# Altium footprint library 632722200211.PcbLib: 1 footprints
Each footprint in its own frame and in the unit in brackets; x right, y up, seen from the top. Pads: shape width x height; smd on the part's side, far side on the other; paste and mask are expansions set on the pad; w line width, h text height; cw(c..) or ccw(c..) is an arc to the next point about the centre after c.
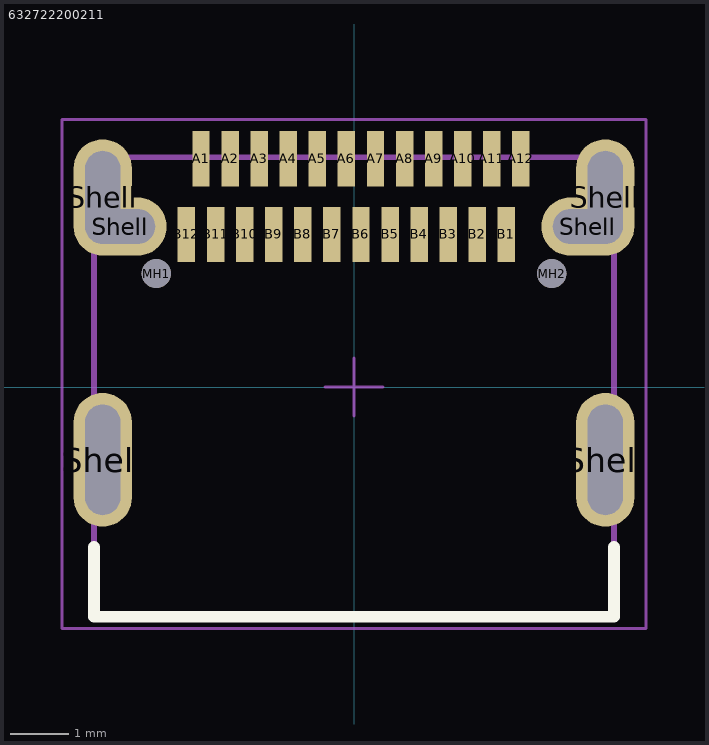
[diagram p0: the footprint, top view; thin cyan lines are the x and y axes]

## 632722200211 [mm] "USB 3.1 Type C"
height 3.16
pads (32):
  rect 0.3x0.95 smd: A1(-2.63,3.925) A2(-2.13,3.925) A3(-1.63,3.925) A4(-1.13,3.925) A5(-0.63,3.925) A6(-0.13,3.925) A7(0.37,3.925) A8(0.87,3.925) A9(1.37,3.925) A10(1.87,3.925) A11(2.37,3.925) A12(2.87,3.925) B1(2.62,2.625) B2(2.12,2.625) B3(1.62,2.625) B4(1.12,2.625) B5(0.62,2.625) B6(0.12,2.625) B7(-0.38,2.625) B8(-0.88,2.625) B9(-1.38,2.625) B10(-1.88,2.625) B11(-2.38,2.625) B12(-2.88,2.625)
  round 0.5 hole 0.5 unplated: MH1(-3.4,1.95) MH2(3.4,1.95)
  oval 1x2.3 hole 0.6 slot 1.9 at 90 deg: Shell(-4.32,-1.25) Shell(4.32,-1.25)
  oval 1x2 hole 0.6 slot 1.6 at 90 deg: Shell(-4.32,3.26) Shell(4.32,3.26)
  oval 1.6x1 hole 0.6 slot 1.2 at 0 deg: Shell(-4.02,2.76) Shell(4.02,2.76)
Top Overlay:
  lines w0.2: -4.47,-2.75 -4.47,-3.95 4.47,-3.95 4.47,-2.75
Top Designator:
  text ".Designator" at -7.498,-0.5 h1.5
Top Component Outline:
  lines w0.1: -4.47,-3.95 4.47,-3.95 4.47,3.95 -4.47,3.95 -4.47,-3.95
Top Courtyard:
  lines w0.05: -5.02,-4.15 5.02,-4.15 5.02,4.6 -5.02,4.6 -5.02,-4.15
Top Component Center:
  lines w0.05: -0.5,0 0.5,0 ; 0,-0.5 0,0.5
3D body "632722200211.stp": height 3.14, standoff -0.51, extent -4.47,-3.95 4.47,4.15